# EAGLE library part 14LAN+2SFP (library switch)
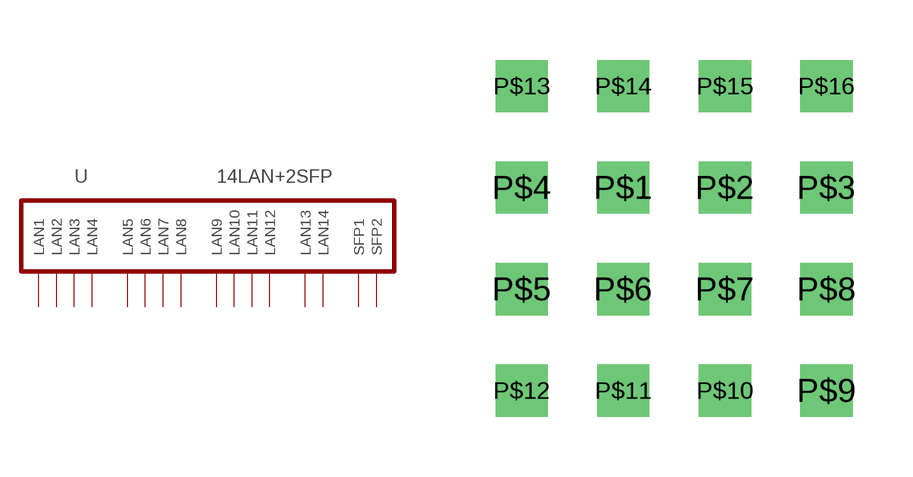
[diagram p3: symbol with the pads of 16PIN; footprint 16PIN]

Designator prefix -

## 14LAN+2SFP  [16PIN]
P$1  LAN1
P$2  LAN2
P$3  LAN3
P$4  LAN4
P$5  LAN5
P$6  LAN6
P$7  LAN7
P$8  LAN8
P$9  LAN9
P$10  LAN10
P$11  LAN11
P$12  LAN12
P$13  LAN13
P$14  LAN14
P$15  SFP1
P$16  SFP2

## Footprint 16PIN (pad centres in mm)
drill 0.8 square: P$1 -1.27,1.27; P$2 1.27,1.27; P$3 3.81,1.27; P$4 -3.81,1.27; P$5 -3.81,-1.27; P$6 -1.27,-1.27; P$7 1.27,-1.27; P$8 3.81,-1.27; P$9 3.81,-3.81; P$10 1.27,-3.81; P$11 -1.27,-3.81; P$12 -3.81,-3.81; P$13 -3.81,3.81; P$14 -1.27,3.81; P$15 1.27,3.81; P$16 3.81,3.81